# EAGLE library part TB6643KQ,8 (library TB6643KQ_8)
Bi-CMOS Integrated Circuit Silicon Monolithic Source: Datasheet <https://toshiba.semicon-storage.com/info/docget.jsp?did=11271&prodName=TB6643KQ>
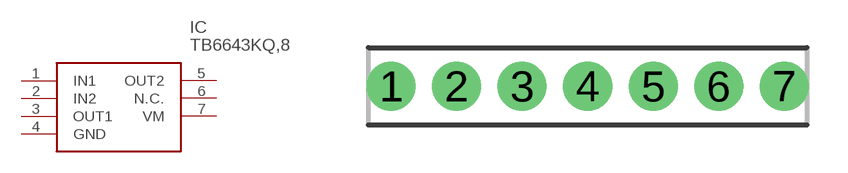
[diagram p0: symbol with the pads of HSIP7-P-2.54A; footprint HSIP7-P-2.54A]

Designator prefix IC

## TB6643KQ,8 (Description: Bi-CMOS Integrated Circuit Silicon Monolithic; DigiKey_Part_Number: TB6643KQ8-ND; DigiKey_Price-Stock: https://www.digikey.co.uk/product-detail/en/toshiba-semiconductor-and-storage/TB6643KQ,8/TB6643KQ8-ND/3671295; Height: mm; Manufacturer_Name: Toshiba; Manufacturer_Part_Number: TB6643KQ,8)  [HSIP7-P-2.54A]
1  IN1
2  IN2
3  OUT1
4  GND
5  OUT2
6  N.C.  nc
7  VM

## Footprint HSIP7-P-2.54A (pad centres in mm)
HSIP7-P-2.54A
drill 1.19 pad 1.9: 1 -7.62,0; 2 -5.08,0; 3 -2.54,0; 4 0,0; 5 2.54,0; 6 5.08,0; 7 7.62,0